# Altium footprint library PcbLib1.PcbLib: 3 footprints
Each footprint in its own frame and in the unit in brackets; x right, y up, seen from the top. Pads: shape width x height; smd on the part's side, far side on the other; paste and mask are expansions set on the pad; w line width, h text height; cw(c..) or ccw(c..) is an arc to the next point about the centre after c.
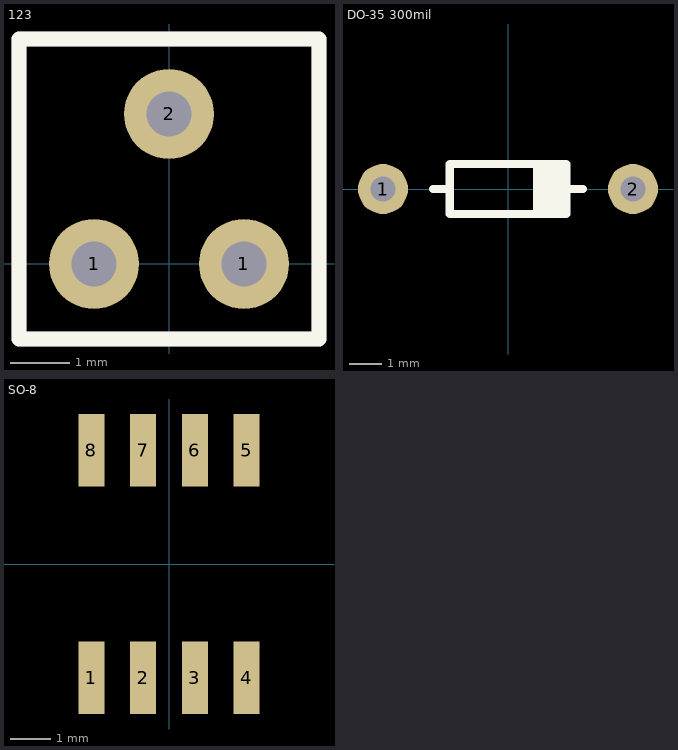
[diagram p0: the footprints below, top view; thin cyan lines are the x and y axes]

## 123 [mil]
pads (3):
  round 60 hole 30: 1(-50,0) 1(50,0) 2(0,100)
Top Overlay:
  lines w10: -100,-50 100,-50 100,150 -100,150 -100,-50
Mechanical 1:
  lines w10: -100,-50 -100,150 100,150 100,-50 -100,-50

## DO-35 300mil [mil]
pads (2):
  round 60 hole 30: 1(-150,0) 2(150,0)
Top Overlay:
  rectangle: 30,-30 70,30
  lines w10: -90,0 -70,0 ; 70,0 90,0 ; -70,-30 70,-30 70,30 -70,30 -70,-30
3D body: height 10, standoff 0, extent 0,0 0,0
3D body: height 10, standoff 0, extent 0,0 0,0
3D body: height 10, standoff 0, extent 0,0 0,0
3D body "User Library-DO-35G-30.step": height 71.69, standoff -78.74, extent -160.83,-35.48 160.82,35.47
3D body: height 10, standoff 0, extent 0,0 0,0

## SO-8 [mil]
pads (8):
  rect 25x70 smd: 1(-75,-110) 2(-25,-110) 3(25,-110) 4(75,-110) 5(75,110) 6(25,110) 7(-25,110) 8(-75,110)
3D body: height 71.69, standoff -78.74, extent 0,0 0,0
3D body: height 71.69, standoff -78.74, extent 0,0 0,0
3D body "SO-8.step": height 57, standoff 0, extent -97,-113.75 96,113.75